# Altium schematic symbol library VoltageReferences.SchLib: 2 symbols
Pins are listed as number, name and electrical type; pins without a type are passive.

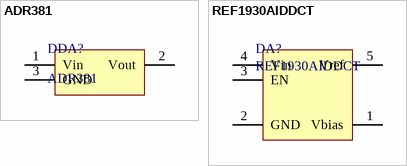
[diagram p0: symbols ADR381 to REF1930AIDDCT]

## ADR381
designator DDA?
2.5V Voltage Reference low drift
footprint SOT-23-3
pins: 1 Vin, 2 Vout, 3 GND

## REF1930AIDDCT
designator DA?
3.0V TI voltage reference
footprint SOT-23-5
pins: 1 Vbias, 2 GND, 3 EN, 4 Vin, 5 Vref